# Altium schematic symbol library MAGJACK RJ45.SchLib: 1 symbol
Pins are listed as number, name and electrical type; pins without a type are passive.

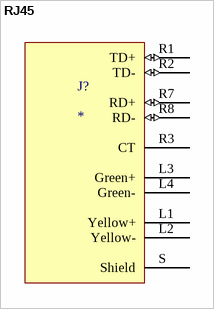
[diagram p0: symbol RJ45]

## RJ45
designator J?
footprint RB1-125BAG1A (MAGJACK RJ45)
pins: L1 Yellow+, L2 Yellow-, L3 Green+, L4 Green-, R1 TD+ (io), R2 TD- (io), R3 CT, R7 RD+ (io), R8 RD- (io), S Shield